# Altium schematic symbol library DC-DC converters(B_S-2WR3).SchLib: 1 symbol
Pins are listed as number, name and electrical type; pins without a type are passive.

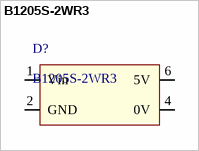
[diagram p0: symbol B1205S-2WR3]

## B1205S-2WR3
designator D?
Isolated DCDC power supply, 2W input 12 output 5; Input voltage range: 10.8-13.2V; Output voltage: 5V; Iout (max): 400mA; Efficiency (max): 82%; Output power (max): 2W
footprint B_S-2WR3
pins: 1 Vin, 2 GND, 4 0V, 6 5V